# Altium footprint library conn.PcbLib: 34 footprints (part 2 of 3)
Each footprint in its own frame and in the unit in brackets; x right, y up, seen from the top. Pads: shape width x height; smd on the part's side, far side on the other; paste and mask are expansions set on the pad; w line width, h text height; cw(c..) or ccw(c..) is an arc to the next point about the centre after c.
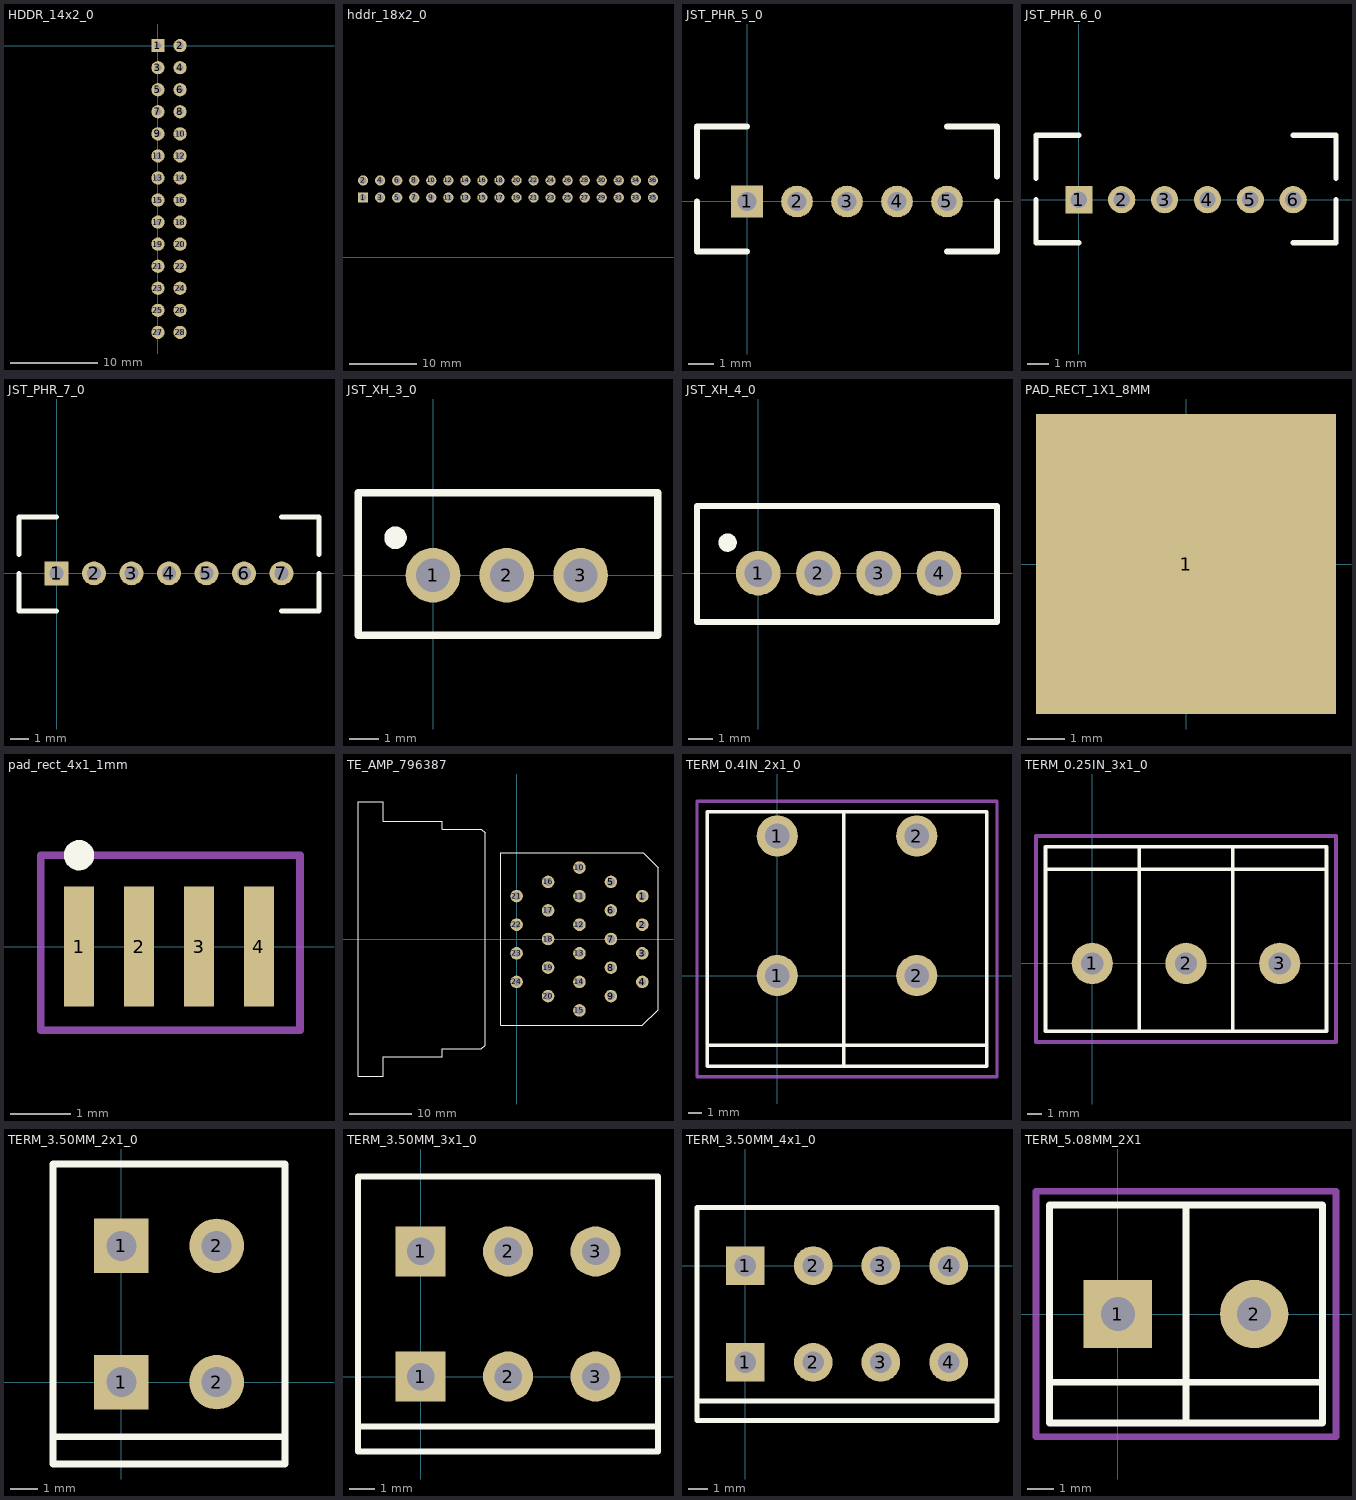
[diagram p1: the footprints below, top view; thin cyan lines are the x and y axes]

## HDDR_14x2_0 [mil]
pads (28):
  rect 60x60 hole 30: 1(0,0)
  round 60 hole 30: 2(100,0) 3(0,-100) 4(100,-100) 5(0,-200) 6(100,-200) 7(0,-300) 8(100,-300) 9(0,-400) 10(100,-400) 11(0,-500) 12(100,-500) 13(0,-600) 14(100,-600) 15(0,-700) 16(100,-700) 17(0,-800) 18(100,-800) 19(0,-900) 20(100,-900) 21(0,-1000) 22(100,-1000) 23(0,-1100) 24(100,-1100) 25(0,-1200) 26(100,-1200) 27(0,-1300) 28(100,-1300)

## hddr_18x2_0 [mil] "0.1\" Header 18x2"
pads (36):
  rect 60x60 hole 40: 1(800,350)
  round 60 hole 40: 2(800,450) 3(900,350) 4(900,450) 5(1000,350) 6(1000,450) 7(1100,350) 8(1100,450) 9(1200,350) 10(1200,450) 11(1300,350) 12(1300,450) 13(1400,350) 14(1400,450) 15(1500,350) 16(1500,450) 17(1600,350) 18(1600,450) 19(1700,350) 20(1700,450) 21(1800,350) 22(1800,450) 23(1900,350) 24(1900,450) 25(2000,350) 26(2000,450) 27(2100,350) 28(2100,450) 29(2200,350) 30(2200,450) 31(2300,350) 32(2300,450) 33(2400,350) 34(2400,450) 35(2500,350) 36(2500,450)

## JST_PHR_5_0 [mil]
pads (5):
  rect 50x50 hole 30: 1(0,0)
  round 50 hole 30: 2(78.74,0) 3(157.48,0) 4(236.22,0) 5(314.96,0)
Top Overlay:
  lines w10: -78.74,0 -78.74,-78.74 0,-78.74 ; -78.74,39.37 -78.74,118.11 0,118.11 ; 314.96,-78.74 393.7,-78.74 393.7,0 ; 314.96,118.11 393.7,118.11 393.7,39.37

## JST_PHR_6_0 [mil]
pads (6):
  rect 50x50 hole 30: 1(0,0)
  round 50 hole 30: 2(78.74,0) 3(157.48,0) 4(236.22,0) 5(314.96,0) 6(393.7,0)
Top Overlay:
  lines w10: -78.74,0 -78.74,-78.74 0,-78.74 ; -78.74,39.37 -78.74,118.11 0,118.11 ; 393.7,-78.74 472.44,-78.74 472.44,0 ; 393.7,118.11 472.44,118.11 472.44,39.37

## JST_PHR_7_0 [mil]
pads (7):
  rect 50x50 hole 30: 1(0,0)
  round 50 hole 30: 2(78.74,0) 3(157.48,0) 4(236.22,0) 5(314.96,0) 6(393.7,0) 7(472.44,0)
Top Overlay:
  lines w10: -78.74,0 -78.74,-78.74 0,-78.74 ; -78.74,39.37 -78.74,118.11 0,118.11 ; 472.44,-78.74 551.18,-78.74 551.18,0 ; 472.44,118.11 551.18,118.11 551.18,39.37

## JST_XH_3_0 [mm] "JST XH Through Hole Connector, 3 pins"
pads (3):
  round 1.85 hole 1.15: 1(0,0) 2(2.5,0) 3(5,0)
Top Overlay:
  circle w0.381: c-1.27,1.27 r0.191
  lines w0.254: -2.54,-2.032 -2.54,2.794 7.62,2.794 7.62,-2.032 -2.54,-2.032

## JST_XH_4_0 [mm] "JST XH Through Hole Connector, 4 pins"
pads (4):
  round 1.85 hole 1.15: 1(0,0) 2(2.5,0) 3(5,0) 4(7.5,0)
Top Overlay:
  circle w0.381: c-1.27,1.27 r0.191
  lines w0.254: -2.54,-2.032 -2.54,2.794 9.906,2.794 9.906,-2.032 -2.54,-2.032

## PAD_RECT_1X1_8MM [mm]
pads (1):
  rect 8x8 smd: 1(0,0)

## pad_rect_4x1_1mm [mm] "1mm pitch Rect Pads"
pads (4):
  rect 0.5x2 smd: 1(-7.62,0) 2(-6.62,0) 3(-5.62,0) 4(-4.62,0)
Top Overlay:
  circle w0.254: c-7.62,1.524 r0.127
Mechanical 15:
  lines w0.127: -8.255,-1.397 -3.937,-1.397 -3.937,1.524 -8.255,1.524 -8.255,-1.397

## TE_AMP_796387 [mil]
pads (24):
  round 80 hole 50: 1(800,273) 2(800,91) 3(800,-91) 4(800,-273) 5(600,364) 6(600,182) 7(600,0) 8(600,-182) 9(600,-364) 10(400,455) 11(400,273) 12(400,91) 13(400,-91) 14(400,-273) 15(400,-455) 16(200,364) 17(200,182) 18(200,0) 19(200,-182) 20(200,-364) 21(0,273) 22(0,91) 23(0,-91) 24(0,-273)
Top Overlay:
  lines w5: -1010,-875 -1010,875 -850,875 -850,750 -475,750 -475,700 -225,700 -200,675 -200,625 -200,-675 -225,-700 -475,-700 -475,-750 -850,-750 -850,-875 -1010,-875 ; -100,-550 800,-550 900,-450 900,455 805,550 -100,550 -100,-550

## TERM_0.4IN_2x1_0 [mm] "Terminal Block, 0.4\" Spacing, 2x1"
pads (4):
  round 3 hole 1.8: 1(0,0) 1(0,10.16) 2(10.16,0) 2(10.16,10.16)
Top Overlay:
  lines w0.254: -5.08,-5.08 15.24,-5.08 ; 4.826,-6.604 4.826,11.938 ; -5.08,-6.604 -5.08,11.938 15.24,11.938 15.24,-6.604 -5.08,-6.604
Mechanical 15:
  lines w0.254: -5.842,-7.366 16.002,-7.366 16.002,12.7 -5.842,12.7 -5.842,-7.366

## TERM_0.25IN_3x1_0 [mm] "Terminal Block, 0.25\" Spacing, 3x1"
pads (3):
  round 2.8 hole 1.5: 1(0,0) 2(6.35,0) 3(12.7,0)
Top Overlay:
  lines w0.254: -3.175,6.376 15.875,6.376 ; 3.175,-4.6 3.175,7.9 ; 9.525,-4.6 9.525,7.9 ; -3.175,-4.6 15.875,-4.6 15.875,7.9 -3.175,7.9 -3.175,-4.6
Mechanical 15:
  lines w0.254: -3.81,-5.334 -3.81,8.636 16.51,8.636 16.51,-5.334 -3.81,-5.334

## TERM_3.50MM_2x1_0 [mm] "Terminal Block, 3.5mm pitch"
pads (4):
  rect 2x2 hole 1.1: 1(0,0) 1(0,5)
  round 2 hole 1.1: 2(3.5,0) 2(3.5,5)
Top Overlay:
  lines w0.254: -2.5,-2 6,-2 ; -2.5,-3 0,-3 6,-3 6,8 -2.5,8 -2.5,-3
3D body "1861933.SLDPRT": height 8.98, standoff -2.6, extent -2.5,-3 6,8

## TERM_3.50MM_3x1_0 [mm]
pads (6):
  rect 2x2 hole 1.1: 1(0,0) 1(0,5)
  round 2 hole 1.1: 2(3.5,0) 2(3.5,5) 3(7,0) 3(7,5)
Top Overlay:
  lines w0.254: -2.5,-2 9.5,-2 ; -2.5,-3 -2.5,8 9.5,8 9.5,-3 0,-3 -2.5,-3
3D body "1861946.SLDPRT": height 8.98, standoff -2.6, extent -2.5,-3 9.5,8

## TERM_3.50MM_4x1_0 [mm]
pads (8):
  rect 2x2 hole 1.1: 1(0,-5) 1(0,0)
  round 2 hole 1.1: 2(3.5,-5) 2(3.5,0) 3(7,-5) 3(7,0) 4(10.5,-5) 4(10.5,0)
Top Overlay:
  lines w0.254: -2.5,-7 13,-7 ; -2.5,-8 0,-8 13,-8 13,3 -2.5,3 -2.5,-8
3D body "1861959.SLDPRT": height 8.98, standoff -2.6, extent -2.5,-8 13,3

## TERM_5.08MM_2X1 [mil]
pads (2):
  rect 100x100 hole 50: 1(0,0)
  round 100 hole 50: 2(200,0)
Top Overlay:
  lines w10: -100,-100 300,-100 ; 100,-160 100,160 ; -100,-160 -100,160 300,160 300,-160 -100,-160
Mechanical 15:
  lines w10: -120,-180 -120,180 320,180 320,-180 -120,-180